# Altium schematic symbol library LEDs and Displays.SchLib: 12 symbols
Pins are listed as number, name and electrical type; pins without a type are passive.

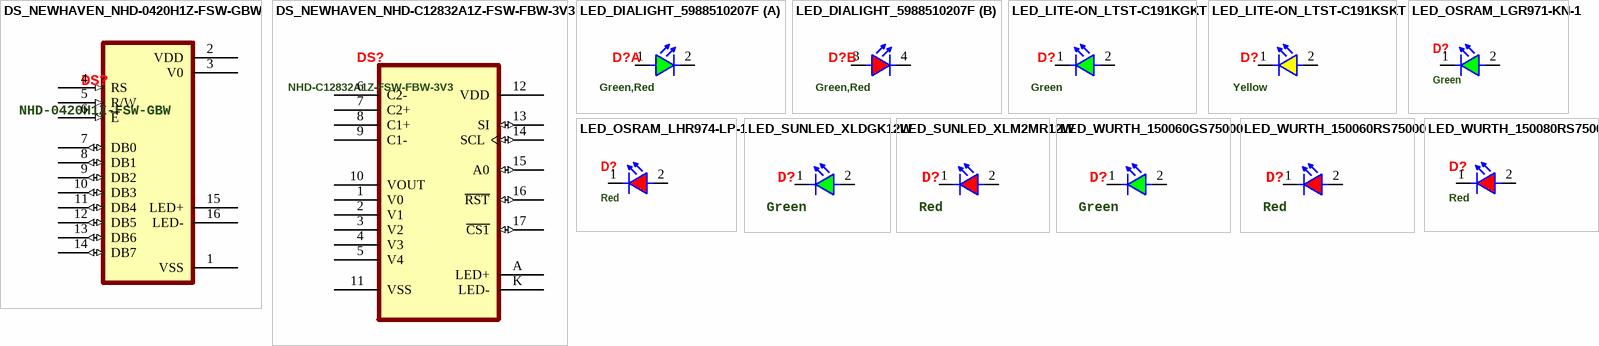
[diagram p0: symbols DS_NEWHAVEN_NHD-0420H1Z-FSW-GBW to LED_WURTH_150080RS75000]

## DS_NEWHAVEN_NHD-0420H1Z-FSW-GBW
designator DS?, comment NHD-0420H1Z-FSW-GBW
Character Display Module Transflective 5 x 8 Dots STN - Super-Twisted Nematic LED - White Parallel 79.00mm x 36.00mm x 13.00mm; Manufacturer: Newhaven Display; Number of Characters: 80; Contrast Ratio: 2:1; ComponentLinkDescription: Datasheet; Display Format: 20 x 4; Manufacturer Part Number: NHD-0420H1Z-FSW-GBW; Category: LCD, OLED, Graphic Displays; Min Operating Temperature: -20°C; Max Operating Temperature: 70°C; Interface: Parallel; Background Color: White; Backlight Type: LED; RoHS Compliant: No; Character Format: 5 x 8 Dots; ComponentLinkURL: https://www.digikey.com/en/htmldatasheets/production/1274559/0/0/1/nhd-0420h1z-fsw-gbw.html?site=US&lang=en&cur=USD; ComponentLink2Description: Controller Datasheet; ComponentLink2URL: https://support.newhavendisplay.com/hc/en-us/article_attachments/4414860851735/ST7066U.pdf; Supplier 1: Digi-Key; Supplier Part Number 1: NHD-0420H1Z-FSW-GBW-ND; Supplier 2: Mouser; Supplier Part Number 2: 763-NHD0420H1ZFSWGBW
footprint DS_NEWHAVEN_NHD-0420H1Z-FSW-GBW (Character Display Module Transflective 5 x 8 Dots STN - Super-Twisted Nematic LED - White Parallel 79.00mm x 36.00mm x 13.00mm)
pins: 1 VSS (power) "Ground", 2 VDD (power) "Supply Voltage for logic (+5.0V)", 3 V0 (power) "Supply Voltage for contrast (approx 0.6V)", 4 RS (in) "Register Select signal. RS=0: Command, RS=1 Data", 5 R/W (in) "Read/Write select signal. R/W=1: Read R/W=0: Write", 6 ~{E} (in) "Operation Enable signal. Falling edge triggered.", 7 DB0 (io) "Data Bus low", 8 DB1 (io) "Data Bus low", 9 DB2 (io) "Data Bus low", 10 DB3 (io) "Data Bus low", 11 DB4 (io) "Data Bus high", 12 DB5 (io) "Data Bus high", 13 DB6 (io) "Data Bus high", 14 DB7 (io) "Data Bus high", 15 LED+ (power) "Backlight Anode (+5.0V)", 16 LED- (power) "Backlight Cathode (GND)"

## DS_NEWHAVEN_NHD-C12832A1Z-FSW-FBW-3V3
designator DS?, comment NHD-C12832A1Z-FSW-FBW-3V3
Graphic LCD Display Module Transflective Black (White - Inverted) FSTN - Film Super-Twisted Nematic SPI 128 x 32; Manufacturer: Newhaven Display; Contrast Ratio: 6:1; Backlight Type: LED; Touchscreen: No; Resolution (height): 32pixel; Resolution (width): 128pixel; ComponentLinkDescription: Datasheet; Category: LCD, OLED, Graphic Displays; Min Operating Temperature: -20°C; Max Operating Temperature: 70°C; Background Color: Black; Interface: SPI; ComponentLink2Description: Controller Datasheet; ComponentLink2URL: https://newhavendisplay.com/content/app_notes/ST7565R.pdf; RoHS Compliant: Yes; ComponentLinkURL: https://www.digikey.com/htmldatasheets/production/547695/0/0/2/nhd-c12832a1z-fsw-fbw-3v3.pdf; Manufacturer Part Number: NHD-C12832A1Z-FSW-FBW-3V3
footprint DS_NEWHAVEN_NHD-C12832A1Z-FSW-FBW-3V3 (Graphic LCD Display Module Transflective Black (White - Inverted) FSTN - Film Super-Twisted Nematic SPI 128 x 32)
pins: 1 V0 (power) "0.1uF - 1uF Capacitor to Vss", 2 V1 (power) "0.1uF - 1uF Capacitor to Vss", 3 V2 (power) "0.1uF - 1uF Capacitor to Vss", 4 V3 (power) "0.1uF - 1uF Capacitor to Vss", 5 V4 (power) "0.1uF - 1uF Capacitor to Vss", 6 C2- (power) "Connect 1uF - 2.2uF Capacitor to C2+ (pin 7)", 7 C2+ (power) "Connect 1uF - 2.2uF Capacitor to C2- (pin 6)", 8 C1+ (power) "Connect 1uF - 2.2uF Capacitor to C1- (pin 9)", 9 C1- (power) "Connect 1uF - 2.2uF Capacitor to C1+ (pin 8)", 10 VOUT (power) "Connect 1uF - 2.2uF Capacitor to Vss (pin11)", 11 VSS (power) "Ground", 12 VDD (power) "Supply Voltage for LCD and Logic (+3V)", 13 SI (io) "Serial Data", 14 SCL (io) "Serial Clock", 15 A0 (io) "Register Select. A0=0: Instruction, A0=1: Data", 16 ~{RST} (io) "Active Low Reset Signal", 17 ~{CS1} (io) "Active Low Chip Select Signal", A LED+ (power) "Backlight Anode (+3V)", K LED- (power) "Backlight Cathode (Ground)"

## LED_DIALIGHT_5988510207F
designator D?, comment Green,Red
Green, Red 565nm Green, 635nm Red LED Indication - Discrete 2V Green, 2V Red 2-SMD, No Lead; Manufacturer: Dialight; Manufacturer Part Number: 5988510207F; Lens Color: Colorless,Clear; Luminous Intensity: 60mcd; Forward Current: 20mA; Viewing Angle: 160°; Forward Voltage: 1.8V; Lens Style: Domed,Round,Diffused,Colorless,Clear; Lens Transparency: Clear; Power Dissipation: 48mW; Number of LEDs: 2; ComponentLinkDescription: Datasheet; Category: LEDs; Case/Package: SMD/SMT; Color: Green,Red; Min Operating Temperature: -40°C; Max Operating Temperature: 100°C; Dominant Wavelength: 635nm; Wavelength: 635nm; RoHS Compliant: Yes; ComponentLinkURL: https://s3-us-west-2.amazonaws.com/catsy.557/Dialight_CBI_data_598-biRA_Apr2018.pdf
footprint LED_DIALIGHT_5988510207F (LED Red - Yellow/Green Dialight Right Angle view)
simulation model DIALIGHT_5988510207F (Model Description)
part A pins: 1 A, 2 K
part B pins: 3 A, 4 K

## LED_LITE-ON_LTST-C191KGKT
designator D?, comment Green
Green 571nm LED Indication - Discrete 2V 0603 (1608 Metric); Manufacturer: Vishay Lite-On; Manufacturer Part Number: LTST-C191KGKT; Lens Color: Colorless; Luminous Intensity: 35mcd; Viewing Angle: 130°; Lens Transparency: Clear; Wavelength: 574nm; Lens Style: Rectangular,Colorless; Forward Current: 30mA; Power Dissipation: 75mW; Number of LEDs: 1; ComponentLinkDescription: Datasheet; Category: LEDs; Case/Package: 0603; Min Operating Temperature: -55°C; Max Operating Temperature: 85°C; Forward Voltage: 2V; Dominant Wavelength: 571nm; ComponentLinkURL: https://optoelectronics.liteon.com/upload/download/DS22-2000-228/LTST-C191KGKT.PDF; Color: Green; RoHS Compliant: Yes
footprint DIOC-GRN-1608X06N (Chip Diode Green, 2-Leads, Body 1.60x0.80mm, IPC Medium Density)
footprint DIOC-GRN-1608X06L (Chip Diode Green, 2-Leads, Body 1.60x0.80mm, IPC High Density)
footprint DIOC-GRN-1608X06M (Chip Diode Green, 2-Leads, Body 1.60x0.80mm, IPC Low Density)
simulation model LITEON_LTST-C191KGKT (Model Description)
pins: 1 K, 2 A

## LED_LITE-ON_LTST-C191KSKT
designator D?, comment Yellow
Yellow 591nm LED Indication - Discrete 2.1V 0603 (1608 Metric); Manufacturer: Vishay Lite-On; Manufacturer Part Number: LTST-C191KSKT; Lens Color: Colorless; Viewing Angle: 130°; Lens Style: Diffused,Colorless,Rectangular,Clear; Luminous Intensity: 180mcd; Forward Current: 30mA; Forward Voltage: 2.4V; Dominant Wavelength: 597nm; Lens Transparency: Clear; Power Dissipation: 75mW; Wavelength: 588nm; Number of LEDs: 1; ComponentLinkDescription: Datasheet; Category: LEDs; Case/Package: 0603; Color: Yellow; Min Operating Temperature: -55°C; Max Operating Temperature: 85°C; RoHS Compliant: Yes; ComponentLinkURL: https://optoelectronics.liteon.com/upload/download/DS22-2000-224/LTST-C191KSKT.PDF; Supplier 2: Mouser; Supplier Part Number 1: 160-1448-1-ND; Supplier Part Number 2: 859-LTST-C191KSKT
footprint DIOC-YLW-1608X06N (Chip Diode Yellow, 2-Leads, Body 1.60x0.80mm, IPC Medium Density)
footprint DIOC-YLW-1608X06L (Chip Diode Yellow, 2-Leads, Body 1.60x0.80mm, IPC High Density)
footprint DIOC-YLW-1608X06M (Chip Diode Yellow, 2-Leads, Body 1.60x0.80mm, IPC Low Density)
simulation model LITEON_LTSTC191KSKT (Model Description)
pins: 1 K, 2 A

## LED_OSRAM_LGR971-KN-1
designator D?, comment Green
Green 570nm LED Indication - Discrete 2.2V 0805 (2012 Metric); Manufacturer: Osram Opto; Manufacturer Part Number: LGR971-KN-1; Lens Color: White; Forward Current: 25mA; Lens Style: Diffused,Flat,Colorless,Rectangular; Luminous Intensity: 45mcd; Viewing Angle: 160°; Lens Transparency: Diffused; Power Dissipation: 65mW; Number of LEDs: 1; ComponentLinkDescription: Datasheet; Category: LEDs; Case/Package: 0805; Color: Green; Min Operating Temperature: -30°C; Max Operating Temperature: 85°C; Forward Voltage: 2.2V; Dominant Wavelength: 570nm; RoHS Compliant: Yes; ComponentLinkURL: https://dammedia.osram.info/media/resource/hires/osram-dam-14795755/LG%20R971_EN.pdf; Supplier 1: Digi-Key; Supplier 2: Mouser; Supplier Part Number 1: 475-1410-1-ND; Supplier Part Number 2: 720-LGR971-KN-1; Wavelength: 570nm
footprint DIOC-GRN-2012X08N (Chip Diode Green, 2-Leads, Body 2.00x1.25mm, IPC Medium Density)
footprint DIOC-GRN-2012X08M (Chip Diode Green, 2-Leads, Body 2.00x1.25mm, IPC Low Density)
footprint DIOC-GRN-2012X08L (Chip Diode Green, 2-Leads, Body 2.00x1.25mm, IPC High Density)
simulation model OSRAM_LGR971KN1 (Model Description)
pins: 1 K, 2 A

## LED_OSRAM_LHR974-LP-1
designator D?, comment Red
Red 645nm LED Indication - Discrete 1.8V 0805 (2012 Metric); Manufacturer: Osram Opto; Manufacturer Part Number: LH R974-LP-1; Lens Color: White; Forward Current: 30mA; Lens Style: Diffused,Flat,Colorless; Luminous Intensity: 71mcd; Viewing Angle: 160°; Lens Transparency: Diffused; ComponentLinkDescription: Datasheet; Number of LEDs: 1; Category: LEDs; Case/Package: 0805; Color: Red; Min Operating Temperature: -30°C; Max Operating Temperature: 85°C; Forward Voltage: 1.8V; Dominant Wavelength: 645nm; RoHS Compliant: Yes; ComponentLinkURL: https://dammedia.osram.info/media/resource/hires/osram-dam-5178061/LH%20R974_EN.pdf; Wavelength: 645nm
footprint DIOC-RED-2012X08N (Chip Diode Red, 2-Leads, Body 2.00x1.25mm, IPC Medium Density)
footprint DIOC-RED-2012X08L (Chip Diode Red, 2-Leads, Body 2.00x1.25mm, IPC High Density)
footprint DIOC-RED-2012X08M (Chip Diode Red, 2-Leads, Body 2.00x1.25mm, IPC Low Density)
simulation model OSRAM_LHR974LP1 (Model Description)
pins: 1 K, 2 A

## LED_SUNLED_XLDGK12W
designator D?, comment Green
Green 525nm LED Indication - Discrete 3.3V Radial; Manufacturer: SunLED; Manufacturer Part Number: XLDGK12W; Lens Color: Colorless; Lens Transparency: Clear; Luminous Intensity: 11990mcd; Viewing Angle: 20°; ComponentLinkDescription: Datasheet; Forward Current: 30mA; Number of LEDs: 1; Power Dissipation: 102.5mW; Category: LEDs; Case/Package: Radial; Color: Green; Dominant Wavelength: 525nm; Forward Voltage: 3.3V; RoHS Compliant: Yes; ComponentLinkURL: https://www.digikey.com/htmldatasheets/production/1610950/0/0/1/xldgk12w.pdf; Max Operating Temperature: 85°C; Min Operating Temperature: -40°C; Supplier 1: Digi-Key; Supplier Part Number 1: 1497-1259-ND
footprint LED_GRN_RADIAL_T1_3/4 (LED Standard Through-Hole Green)
simulation model XLDGK12W (Model Description)
pins: 1 K, 2 A

## LED_SUNLED_XLM2MR12W
designator D?, comment Red
Red 640nm LED Indication - Discrete 2.1V Radial; Manufacturer: SunLED; Manufacturer Part Number: XLM2MR12W; Lens Color: Colorless; Lens Transparency: Clear; Luminous Intensity: 1790mcd; Viewing Angle: 20°; ComponentLinkDescription: Datasheet; Forward Current: 30mA; Number of LEDs: 1; Power Dissipation: 75mW; Category: LEDs; Case/Package: Radial; Color: Red; Dominant Wavelength: 640nm; Forward Voltage: 2.1V; RoHS Compliant: Yes; ComponentLinkURL: https://www.digikey.com/htmldatasheets/production/1610978/0/0/1/xlm2mr12w.pdf; Max Operating Temperature: 85°C; Min Operating Temperature: -40°C; Supplier 1: Digi-Key; Supplier Part Number 1: 1497-1256-ND
footprint LED_RED_RADIAL_T1_3/4 (LED Standard Through-Hole Red)
simulation model XLM2MR12W (Model Description)
pins: 1 K, 2 A

## LED_WURTH_150060GS75000
designator D?, comment Green
Green 520nm LED Indication - Discrete 3.2V 0603 (1608 Metric); Manufacturer: Wurth Electronics; Manufacturer Part Number: 150060GS75000; Lens Color: Colorless; Viewing Angle: 140°; Lens Style: Clear,Flat,Rectangular; Luminous Intensity: 430mcd; Forward Current: 30mA; Lens Transparency: Clear; ComponentLinkDescription: Datasheet; Number of LEDs: 1; Power Dissipation: 105mW; Category: LEDs; Case/Package: 0603; Color: Green; Min Operating Temperature: -40°C; Max Operating Temperature: 85°C; Wavelength: 520nm; Forward Voltage: 3.2V; Dominant Wavelength: 520nm; RoHS Compliant: Yes; ComponentLinkURL: https://www.we-online.com/katalog/datasheet/150060GS75000.pdf
footprint DIOC-GRN-1608X06N (Chip Diode Green, 2-Leads, Body 1.60x0.80mm, IPC Medium Density)
footprint DIOC-GRN-1608X06L (Chip Diode Green, 2-Leads, Body 1.60x0.80mm, IPC High Density)
footprint DIOC-GRN-1608X06M (Chip Diode Green, 2-Leads, Body 1.60x0.80mm, IPC Low Density)
simulation model WURTH_150060GS75000 (Model Description)
pins: 1 K, 2 A

## LED_WURTH_150060RS75000
designator D?, comment Red
Red 625nm LED Indication - Discrete 2V 0603 (1608 Metric); Manufacturer: Wurth Electronics; Manufacturer Part Number: 150060RS75000; Lens Color: Colorless; Viewing Angle: 140°; Lens Style: Clear,Flat,Rectangular; Luminous Intensity: 250mcd; Forward Current: 30mA; Lens Transparency: Clear; ComponentLinkDescription: Datasheet; Number of LEDs: 1; Power Dissipation: 105mW; Category: LEDs; Case/Package: 0603; Color: Red; Min Operating Temperature: -40°C; Max Operating Temperature: 85°C; Forward Voltage: 2V; Wavelength: 625nm; Dominant Wavelength: 625nm; RoHS Compliant: Yes; ComponentLinkURL: https://www.we-online.com/katalog/datasheet/150060RS75000.pdf; Supplier 1: Digi-Key; Supplier Part Number 1: 732-4978-1-ND; Supplier 2: Mouser; Supplier Part Number 2: 710-150060RS75000
footprint DIOC-RED-1608X06N (Chip Diode Red, 2-Leads, Body 1.60x0.80mm, IPC Medium Density)
footprint DIOC-RED-1608X06L (Chip Diode Red, 2-Leads, Body 1.60x0.80mm, IPC High Density)
footprint DIOC-RED-1608X06M (Chip Diode Red, 2-Leads, Body 1.60x0.80mm, IPC Low Density)
simulation model WURTH_150060RS75000 (Model Description)
pins: 1 K, 2 A

## LED_WURTH_150080RS75000
designator D?, comment Red
Red 625nm LED Indication - Discrete 2V 0805 (2012 Metric); Manufacturer: Wurth Electronics; Manufacturer Part Number: 150080RS75000; Lens Color: Colorless; Luminous Intensity: 150mcd; Viewing Angle: 140°; Lens Style: Clear,Flat,Rectangular; Forward Current: 30mA; Lens Transparency: Clear; ComponentLinkDescription: Datasheet; Number of LEDs: 1; Power Dissipation: 72mW; Category: LEDs; Case/Package: 0805; Color: Red; Min Operating Temperature: -40°C; Max Operating Temperature: 85°C; Forward Voltage: 2V; Wavelength: 625nm; Dominant Wavelength: 625nm; RoHS Compliant: Yes; ComponentLinkURL: https://www.we-online.com/katalog/datasheet/150080RS75000.pdf; Supplier 1: Digi-Key; Supplier Part Number 1: 732-4984-1-ND; Supplier 2: Mouser; Supplier Part Number 2: 710-150080RS75000
footprint DIOC-RED-2012X08N (Chip Diode Red, 2-Leads, Body 2.00x1.25mm, IPC Medium Density)
footprint DIOC-RED-2012X08L (Chip Diode Red, 2-Leads, Body 2.00x1.25mm, IPC High Density)
footprint DIOC-RED-2012X08M (Chip Diode Red, 2-Leads, Body 2.00x1.25mm, IPC Low Density)
simulation model WURTH_150060RS75000 (Model Description)
pins: 1 K, 2 A